# Altium footprint library PCB - CRYSTALS - YXC NX3225SA.PCBLIB: 1 footprints
Each footprint in its own frame and in the unit in brackets; x right, y up, seen from the top. Pads: shape width x height; smd on the part's side, far side on the other; paste and mask are expansions set on the pad; w line width, h text height; cw(c..) or ccw(c..) is an arc to the next point about the centre after c.
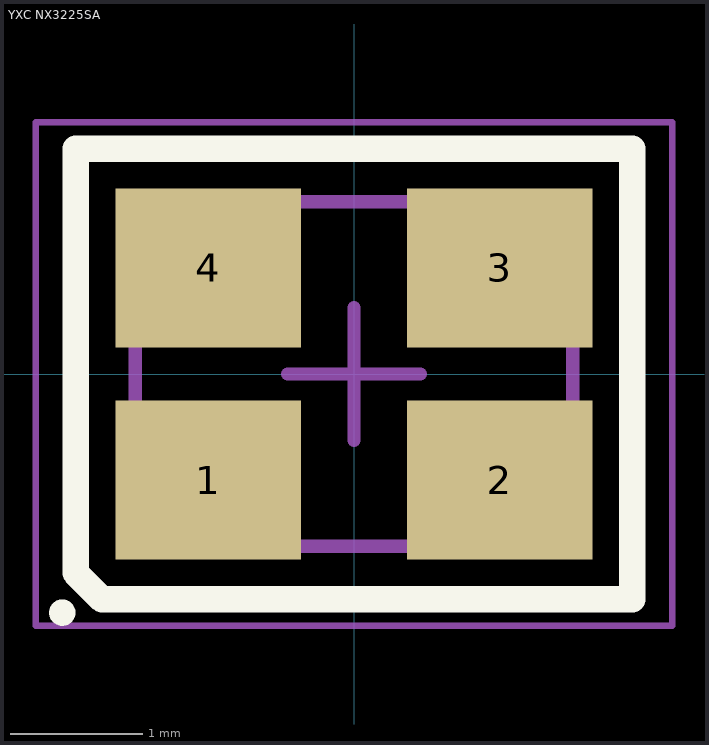
[diagram p0: the footprint, top view; thin cyan lines are the x and y axes]

## YXC NX3225SA [mm] "Crystal, 4-Leads, Body 2.50x3.20mm, Pitch 2.20mm, IPC Medium Density"
height 0.6
pads (4):
  rect 1.4x1.2 smd: 1(-1.1,-0.8) 2(1.1,-0.8) 3(1.1,0.8) 4(-1.1,0.8)
Top Overlay:
  circle w0.1: c-2.2,-1.8 r0.05
  lines w0.2: -2.1,-1.5 -1.9,-1.7 -1.1,-1.7 2.1,-1.7 2.1,1.7 -2.1,1.7 -2.1,-1.5
Mechanical 13:
  lines w0.1: -1.65,-1.3 1.65,-1.3 1.65,1.3 -1.65,1.3 -1.65,-1.3
Mechanical 15:
  lines w0.05: -2.4,-1.9 2.4,-1.9 2.4,1.9 -2.4,1.9 -2.4,-1.9
  lines w0.1: -0.5,0 0.5,0 ; 0,-0.5 0,0.5
3D body "NDK NX3225SA.STEP": height 0.6, standoff 0, extent -1.61,-1.26 1.61,1.26